# Altium footprint library Capacitor.PcbLib: 34 footprints (part 1 of 3)
Each footprint in its own frame and in the unit in brackets; x right, y up, seen from the top. Pads: shape width x height; smd on the part's side, far side on the other; paste and mask are expansions set on the pad; w line width, h text height; cw(c..) or ccw(c..) is an arc to the next point about the centre after c.
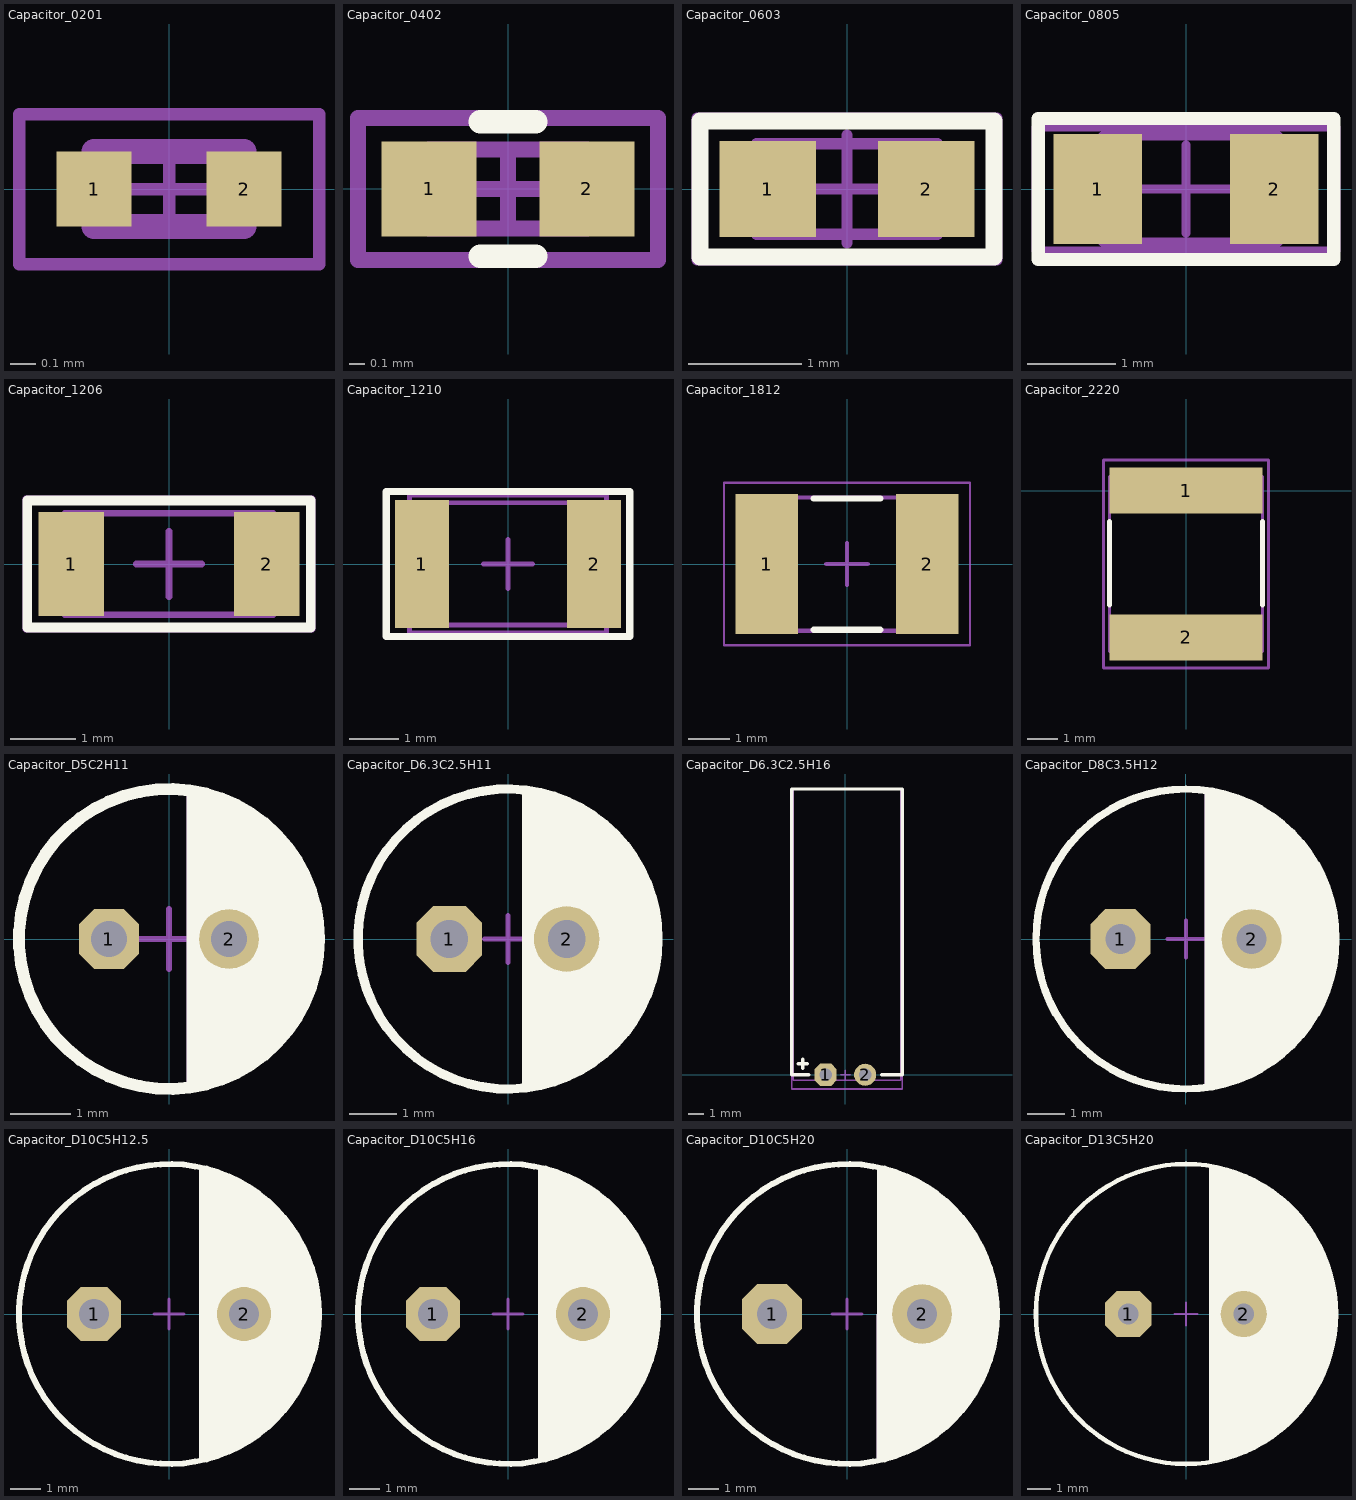
[diagram p0: the footprints below, top view; thin cyan lines are the x and y axes]

## Capacitor_0201 [mm]
height 0.23
pads (2):
  rect 0.3x0.3 smd: 1(-0.3,0) 2(0.3,0)
Mechanical 1:
  lines w0.1: -0.3,-0.15 0.3,-0.15 0.3,0.15 -0.3,0.15 -0.3,-0.15
Mechanical 15:
  lines w0.05: -0.15,0 0.15,0 ; 0,-0.15 0,0.15 ; -0.6,-0.3 -0.6,0.3 0.6,0.3 0.6,-0.3 -0.6,-0.3
3D body "User Library-0201(0603M) Cap.STEP": height 0.31, standoff 0, extent -0.305,-0.152 0.305,0.152

## Capacitor_0402 [mm]
height 0.35
pads (2):
  rect 0.6x0.6 smd: 1(-0.5,0) 2(0.5,0)
Top Overlay:
  lines w0.15: -0.175,-0.425 0.175,-0.425 ; -0.175,0.425 0.175,0.425
Mechanical 1:
  lines w0.1: -0.5,-0.25 -0.5,0.25 0.5,0.25 0.5,-0.25 -0.5,-0.25
Mechanical 15:
  lines w0.1: -0.25,0 0.25,0 ; 0,-0.25 0,0.25 ; -0.95,-0.45 -0.95,0.45 0.95,0.45 0.95,-0.45 -0.95,-0.45
3D body "User Library-0402(1005M) Cap.step": height 0.51, standoff 0, extent -0.508,-0.254 0.508,0.254
3D body "chip_0402_r.STEP": height 0.34, standoff -0.02, extent -0.525,-0.25 0.475,0.25

## Capacitor_0603 [mm]
height 0.45
pads (2):
  rect 0.85x0.85 smd: 1(-0.7,0) 2(0.7,0)
Top Overlay:
  lines w0.15: -1.3,-0.6 1.3,-0.6 1.3,0.6 -1.3,0.6 -1.3,-0.6
Mechanical 1:
  lines w0.1: -0.8,-0.4 0.8,-0.4 0.8,0.4 -0.8,0.4 -0.8,-0.4
Mechanical 15:
  lines w0.1: -0.475,0 0.475,0 ; 0,-0.475 0,0.475 ; -1.325,-0.625 1.325,-0.625 1.325,0.625 -1.325,0.625 -1.325,-0.625
3D body "SW3dPS-0603 SMD Capacitor.STEP": height 0.3, standoff 0, extent -0.8,-0.4 0.8,0.4

## Capacitor_0805 [mm]
height 0.45
pads (2):
  rect 1x1.25 smd: 1(-1,0) 2(1,0)
Top Overlay:
  lines w0.15: -1.675,-0.8 -1.675,0.8 1.675,0.8 1.675,-0.8 -1.675,-0.8
Mechanical 1:
  lines w0.1: -0.949,-0.6 1.05,-0.6 1.05,0.6 -0.949,0.6 -0.949,-0.6
Mechanical 15:
  lines w0.1: -0.5,0 0.5,0 ; 0,-0.5 0,0.5 ; -1.7,-0.7 -1.7,0.7 1.7,0.7 1.7,-0.7 -1.7,-0.7
3D body "SW3dPS-0805 SMD Capacitor.STEP": height 0.78, standoff 0, extent -1,-0.625 1,0.625

## Capacitor_1206 [mm]
height 0.6
pads (2):
  rect 1x1.6 smd: 1(-1.5,0) 2(1.5,0)
Top Overlay:
  lines w0.15: -2.175,-0.975 -2.175,0.975 2.175,0.975 2.175,-0.975 -2.175,-0.975
Mechanical 1:
  lines w0.1: -1.6,-0.775 -1.6,0.775 1.6,0.775 1.6,-0.775 -1.6,-0.775
Mechanical 15:
  lines w0.1: -0.5,0 0.5,0 ; 0,-0.5 0,0.5 ; -2.2,-1 2.2,-1 2.2,1 -2.2,1 -2.2,-1
3D body "SW3dPS-1206 SMD Capacitor.STEP": height 1, standoff 0, extent -1.6,-0.8 1.6,0.8

## Capacitor_1210 [mm]
height 2.5
pads (2):
  rect 1.1x2.6 smd: 1(-1.75,0) 2(1.75,0)
Top Overlay:
  lines w0.15: -2.475,-1.475 2.475,-1.475 2.475,1.475 -2.475,1.475 -2.475,-1.475
Mechanical 1:
  lines w0.1: -2,-1.244 -2,1.245 2,1.245 2,-1.244 -2,-1.244
Mechanical 15:
  lines w0.1: -0.5,0 0.5,0 ; 0,-0.5 0,0.5 ; -2,-1.4 2,-1.4 2,1.4 -2,1.4 -2,-1.4
3D body "User Library-1210(3225M) Cap.STEP": height 1.7, standoff 0, extent -2,-1.244 2,1.245

## Capacitor_1812 [mm]
height 1.4
pads (2):
  rect 1.5x3.35 smd: 1(-1.925,0) 2(1.925,0)
Top Overlay:
  lines w0.15: -0.8,-1.575 0.8,-1.575 ; -0.8,1.575 0.8,1.575
Mechanical 1:
  lines w0.1: -2.25,-1.6 2.25,-1.6 2.25,1.6 -2.25,1.6 -2.25,-1.6
Mechanical 15:
  lines w0.05: -2.95,-1.95 2.95,-1.95 2.95,1.95 -2.95,1.95 -2.95,-1.95
  lines w0.1: -0.5,0 0.5,0 ; 0,-0.5 0,0.5
3D body "SW3dPS-1812 SMD Capacitor.STEP": height 1.6, standoff 0, extent -2.25,-1.6 2.25,1.6

## Capacitor_2220 [mm]
pads (2):
  rect 5x1.5 smd: 1(0,0) 2(0,-4.8)
Top Overlay:
  lines w0.15: -2.5,-3.75 -2.5,-1 ; 2.5,-3.75 2.5,-1
Mechanical 1:
  lines w0.1: -2.5,-5.25 -2.5,0.45 2.5,0.45 2.5,-5.25 -2.5,-5.25
Mechanical 15:
  lines w0.1: -2.7,-5.8 2.7,-5.8 2.7,1 -2,1 -2.7,1 -2.7,-5.8
3D body "User Library-CAPC5750X23.STEP": height 2.3, standoff 0, extent -2.5,-5.25 2.5,0.45

## Capacitor_D5C2H11 [mm]
height 11
pads (2):
  oct 1x1 hole 0.6: 1(-1,0)
  round 1 hole 0.6: 2(1,0)
Top Overlay:
  circle w0.2: c0,0 r2.5
  region: 0.3,-2.5 0.3,2.5 0.975,2.3 1.575,1.95 1.925,1.6 2.175,1.225 2.45,0.575 2.5,0 2.425,-0.625 2.2,-1.225 1.725,-1.8 1.2,-2.2 0.7,-2.425 0.325,-2.5
Mechanical 1:
  circle w0.1: c0,0 r2.5
  region: 0.3,-2.5 0.3,2.5 0.975,2.3 1.575,1.95 1.925,1.6 2.175,1.225 2.45,0.575 2.5,0 2.425,-0.625 2.2,-1.225 1.725,-1.8 1.2,-2.2 0.7,-2.425 0.325,-2.5
Mechanical 15:
  circle w0.1: c0,0 r2.5
  lines w0.1: -0.5,0 0.5,0 ; 0,-0.5 0,0.5
3D body "User Library-CapAluRadial_D50H110.STEP": height 13.5, standoff -3, extent -2.75,-2.75 2.75,2.75

## Capacitor_D6.3C2.5H11 [mm]
height 11
pads (2):
  oct 1.4x1.4 hole 0.8: 1(-1.25,0)
  round 1.4 hole 0.8: 2(1.25,0)
Top Overlay:
  circle w0.2: c0,0 r3.2
  region: 0.3,-3.2 0.3,3.2 1.025,3.05 1.825,2.65 2.45,2.075 2.825,1.5 3.1,0.75 3.2,0 3.125,-0.65 2.925,-1.325 2.5,-2 1.975,-2.525 1.325,-2.9 0.675,-3.125
Mechanical 1:
  circle w0.1: c0,0 r3.2
  region: 0.3,-3.2 0.3,3.2 1.025,3.05 1.825,2.65 2.45,2.075 2.825,1.5 3.1,0.75 3.2,0 3.125,-0.65 2.925,-1.325 2.5,-2 1.975,-2.525 1.325,-2.9 0.675,-3.125
Mechanical 15:
  circle w0.1: c0,0 r3.2
  lines w0.1: -0.5,0 0.5,0 ; 0,-0.5 0,0.5
3D body "User Library-CapAluRadial_D63H110.STEP": height 12.5, standoff -3, extent -3.4,-3.399 3.4,3.399

## Capacitor_D6.3C2.5H16 [mm]
height 16
pads (2):
  oct 1.4x1.4 hole 0.8: 1(-1.25,0)
  round 1.4 hole 0.8: 2(1.25,0)
Top Overlay:
  lines w0.2: -3,0.7 -2.4,0.7 ; -2.7,0.4 -2.7,1 ; -2.3,0 -3.4,0 -3.4,18.1 3.6,18.1 3.6,0 2.3,0
Mechanical 1:
  lines w0.1: -3,0.7 -2.4,0.7 ; -2.7,0.4 -2.7,1
Mechanical 13:
  lines w0.1: -3.3,-0.334 -3.3,18.1 3.5,18.1 3.5,-0.334 -3.3,-0.334
Mechanical 15:
  lines w0.1: -0.3,0 0.3,0 ; 0,-0.3 0,0.3 ; -3.4,-0.9 3.6,-0.9 3.6,18.1 -3.4,18.1 -3.4,-0.9
3D body "D63H150.STEP": height 6.8, standoff -1.6, extent -3.3,-0.334 3.5,18.1

## Capacitor_D8C3.5H12 [mm]
height 12
pads (2):
  oct 1.6x1.6 hole 0.8: 1(-1.75,0)
  round 1.6 hole 0.8: 2(1.75,0)
Top Overlay:
  circle w0.2: c0,0 r4
  region: 0.5,-4 0.5,4 1.3,3.8 2.05,3.45 2.625,3 3.125,2.5 3.575,1.775 3.85,1.1 4,0.325 3.975,-0.425 3.85,-1.125 3.55,-1.85 3.2,-2.4 2.7,-2.95 2.125,-3.375 1.225,-3.8
Mechanical 1:
  circle w0.1: c0,0 r4
  region: 0.5,-4 0.5,4 1.3,3.8 2.05,3.45 2.625,3 3.125,2.5 3.575,1.775 3.85,1.1 4,0.325 3.975,-0.425 3.85,-1.125 3.55,-1.85 3.2,-2.4 2.7,-2.95 2.125,-3.375 1.225,-3.8
Mechanical 15:
  circle w0.1: c0,0 r4
  lines w0.1: -0.5,0 0.5,0 ; 0,-0.5 0,0.5
3D body "User Library-CapAluRadial_D80H115.STEP": height 13, standoff -3, extent -4.25,-4.247 4.25,4.247

## Capacitor_D10C5H12.5 [mm]
height 12.5
pads (2):
  oct 1.8x1.8 hole 1: 1(-2.5,0)
  round 1.8 hole 1: 2(2.5,0)
Top Overlay:
  circle w0.2: c0,0 r5
  region: 1,-4.9 1,4.9 2,4.6 3,4 3.7,3.4 4.529,2.157 4.752,1.667 5,0.3 4.853,-1.313 4.691,-1.882 4.2,-2.7 3.8,-3.2 3.4,-3.7 3,-4 2.4,-4.4 1.7,-4.7 1.1,-4.9
Mechanical 1:
  circle w0.1: c0,0 r5
  region: 1,-4.9 1,4.9 2,4.6 3,4 3.7,3.4 4.529,2.157 4.752,1.667 5,0.3 4.853,-1.313 4.691,-1.882 4.2,-2.7 3.8,-3.2 3.4,-3.7 3,-4 2.4,-4.4 1.7,-4.7 1.1,-4.9
Mechanical 15:
  circle w0.1: c0,0 r5
  lines w0.1: -0.5,0 0.5,0 ; 0,-0.5 0,0.5
3D body "User Library-CapAluRadial_D100H125.STEP": height 14.05, standoff -2.95, extent -5.25,-5.249 5.25,5.249

## Capacitor_D10C5H16 [mm]
height 16
pads (2):
  oct 1.8x1.8 hole 1: 1(-2.5,0)
  round 1.8 hole 1: 2(2.5,0)
Top Overlay:
  circle w0.2: c0,0 r5
  region: 1,-4.9 1,4.9 1.6,4.75 2.175,4.5 2.8,4.15 3.25,3.8 3.875,3.175 4.275,2.6 4.775,1.575 4.975,0.65 5,-0.45 4.875,-1.175 4.675,-1.825 4.275,-2.625 3.775,-3.275 3.075,-3.95 2.35,-4.4 1.275,-4.85 1.025,-4.9
Mechanical 1:
  circle w0.1: c0,0 r5
  region: 1,-4.9 1,4.9 1.6,4.75 2.175,4.5 2.8,4.15 3.25,3.8 3.875,3.175 4.275,2.6 4.775,1.575 4.975,0.65 5,-0.45 4.875,-1.175 4.675,-1.825 4.275,-2.625 3.775,-3.275 3.075,-3.95 2.35,-4.4 1.275,-4.85 1.025,-4.9
Mechanical 15:
  circle w0.1: c0,0 r5
  lines w0.1: -0.5,0 0.5,0 ; 0,-0.5 0,0.5
3D body "User Library-CapAluRadial_D100H160.STEP": height 17.55, standoff -2.95, extent -5.25,-5.249 5.25,5.249

## Capacitor_D10C5H20 [mm]
height 20
pads (2):
  oct 2x2 hole 1: 1(-2.5,0)
  round 2 hole 1: 2(2.5,0)
Top Overlay:
  circle w0.2: c0,0 r5
  region: 1,-4.89 1,4.887 1.775,4.7 2.425,4.4 3,4 3.55,3.525 4.1,2.875 4.55,2.125 4.725,1.625 4.925,0.975 4.975,0.5 5,0 4.975,-0.5 4.825,-1.375 4.475,-2.25 4.2,-2.725 3.675,-3.425 3.2,-3.85 2.55,-4.275 1.875,-4.625 1.4,-4.8
Mechanical 1:
  circle w0.1: c0,0 r5
  region: 1,-4.89 1,4.887 1.775,4.7 2.425,4.4 3,4 3.55,3.525 4.1,2.875 4.55,2.125 4.725,1.625 4.925,0.975 4.975,0.5 5,0 4.975,-0.5 4.825,-1.375 4.475,-2.25 4.2,-2.725 3.675,-3.425 3.2,-3.85 2.55,-4.275 1.875,-4.625 1.4,-4.8
Mechanical 15:
  circle w0.1: c0,0 r5
  lines w0.1: -0.5,0 0.5,0 ; 0,-0.5 0,0.5
3D body "User Library-CapAluRadial_D100H200.STEP": height 22, standoff -3, extent -5.25,-5.249 5.25,5.249

## Capacitor_D13C5H20 [mm]
height 20
pads (2):
  oct 2x2 hole 0.9: 1(-2.5,0)
  round 2 hole 0.9: 2(2.5,0)
Top Overlay:
  circle w0.2: c0,0 r6.5
  region: 1,-6.4 1,6.4 1.8,6.275 2.55,5.975 3.45,5.525 4.275,4.9 4.925,4.25 5.675,3.2 6.075,2.3 6.35,1.475 6.5,0.25 6.425,-0.975 6.1,-2.3 5.75,-3.075 5.3,-3.75 4.9,-4.25 4.425,-4.75 3.9,-5.175 3.275,-5.6 2.675,-5.9 1.975,-6.2 1.4,-6.325
Mechanical 1:
  circle w0.1: c0,0 r6.5
  region: 1,-6.4 1,6.4 1.8,6.275 2.55,5.975 3.45,5.525 4.275,4.9 4.925,4.25 5.675,3.2 6.075,2.3 6.35,1.475 6.5,0.25 6.425,-0.975 6.1,-2.3 5.75,-3.075 5.3,-3.75 4.9,-4.25 4.425,-4.75 3.9,-5.175 3.275,-5.6 2.675,-5.9 1.975,-6.2 1.4,-6.325
Mechanical 15:
  circle w0.1: c0,0 r6.5
  lines w0.1: -0.5,0 0.5,0 ; 0,-0.5 0,0.5
3D body "User Library-Cap-EL(13x25-5).STEP": height 25, standoff -3.3, extent -6.5,-6.499 6.502,6.499